# EAGLE library part LP3982 (library BiomedicalImagingLibrary)
Texas Instruments LDO 3.3V 0.3A
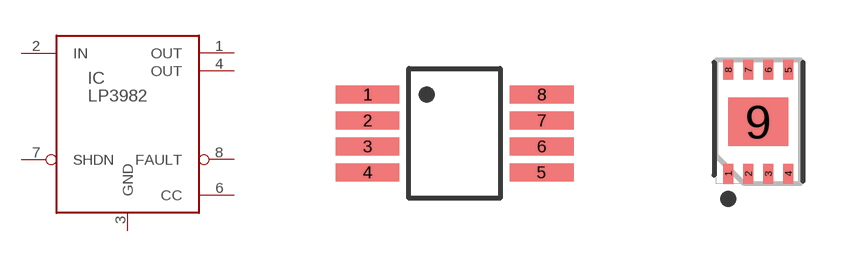
[diagram p10: symbol with the pads of MO-187-AA; footprints MO-187-AA, 8WSON]

Designator prefix IC

## LP3982-DGK  [MO-187-AA]
1  OUT  pas
2  IN  pas
3  GND  pas
4  OUT  pas
6  CC  in
7  SHDN  pas
8  FAULT  pas

## LP3982-NGM  [8WSON]
Pads as for MO-187-AA

## Footprint MO-187-AA (pad centres in mm)
JEDEC MO-187 Variation AA (8-pin) IPC TSOP65P490X109-8N TI package DGK (MSOP) NSC package mua08a
smd 1.6 x 0.45: 1 -2.175,0.975; 2 -2.175,0.325; 3 -2.175,-0.325; 4 -2.175,-0.975; 5 2.175,-0.975; 6 2.175,-0.325; 7 2.175,0.325; 8 2.175,0.975

## Footprint 8WSON (pad centres in mm)
TI NGM package. Similar to SON50P200X300X60-9T25X165N-USON_1
smd 0.25 x 0.5: 1 -0.75,-1.3; 2 -0.25,-1.3; 3 0.25,-1.3; 4 0.75,-1.3; 5 0.75,1.3; 6 0.25,1.3; 7 -0.25,1.3; 8 -0.75,1.3
smd 1.5 x 1.2: 9 0,0